# Altium footprint library CAPC4620X220N.PcbLib: 1 footprints
Each footprint in its own frame and in the unit in brackets; x right, y up, seen from the top. Pads: shape width x height; smd on the part's side, far side on the other; paste and mask are expansions set on the pad; w line width, h text height; cw(c..) or ccw(c..) is an arc to the next point about the centre after c.
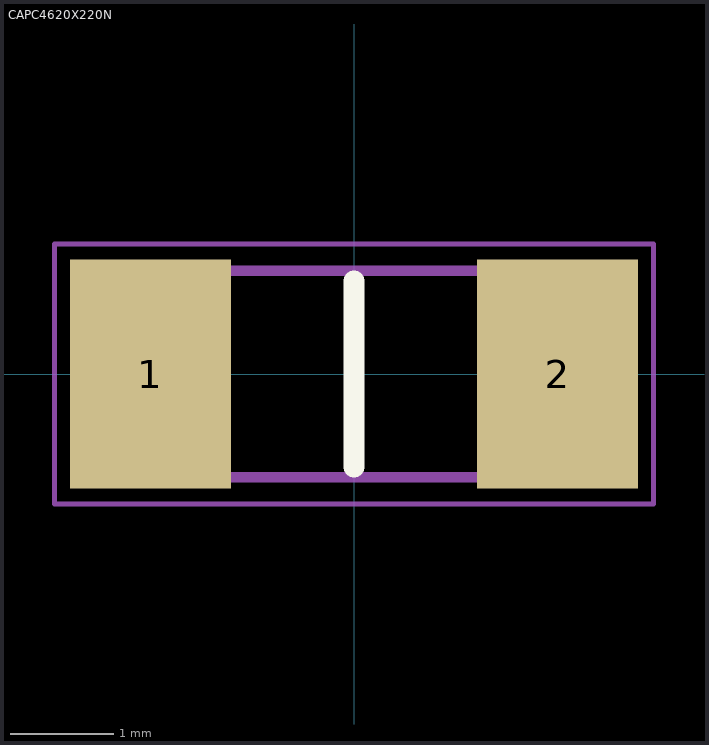
[diagram p0: the footprint, top view; thin cyan lines are the x and y axes]

## CAPC4620X220N [mm]
pads (2):
  rect 1.56x2.22 smd: 1(-1.97,0) 2(1.97,0)
Top Overlay:
  lines w0.2: 0,-0.9 0,0.9
Mechanical 15:
  lines w0.1: -2.3,-1 2.3,-1 2.3,1 -2.3,1 -2.3,-1
Mechanical 20:
  lines w0.05: -2.9,-1.26 2.9,-1.26 2.9,1.26 -2.9,1.26 -2.9,-1.26